# Altium footprint library блок вычислительный_v1.PcbLib: 29 footprints (part 2 of 2)
Each footprint in its own frame and in the unit in brackets; x right, y up, seen from the top. Pads: shape width x height; smd on the part's side, far side on the other; paste and mask are expansions set on the pad; w line width, h text height; cw(c..) or ccw(c..) is an arc to the next point about the centre after c.
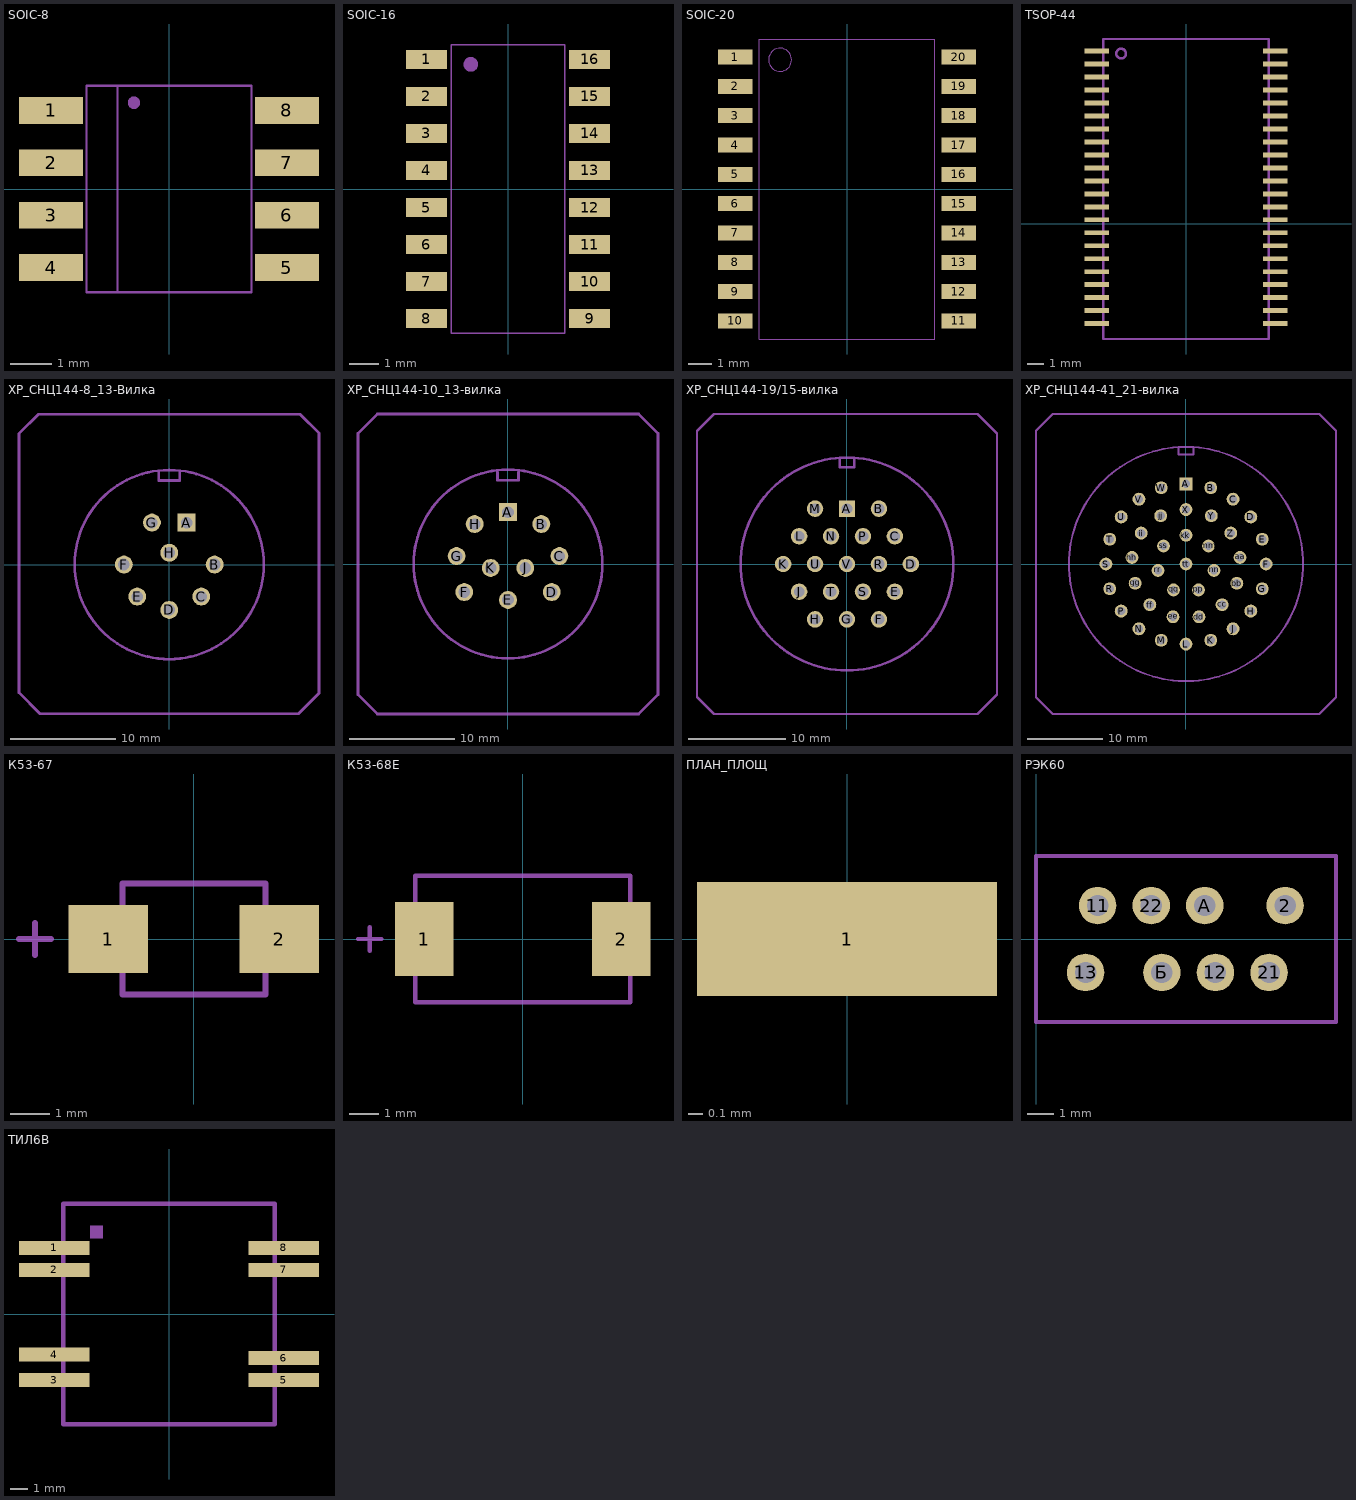
[diagram p1: the footprints below, top view; thin cyan lines are the x and y axes]

## SOIC-8 [mm]
height 1.752
pads (8):
  rect 1.55x0.65 smd: 1(-2.857,1.905) 2(-2.857,0.635) 3(-2.857,-0.635) 4(-2.857,-1.905) 5(2.857,-1.905) 6(2.857,-0.635) 7(2.857,0.635) 8(2.857,1.905)
Mechanical 13:
  circle w0.2: c-0.847,2.09 r0.05
  lines w0.05: -1.25,-2.501 -1.251,2.499 ; -2,-2.5 -2,2.5 2,2.5 2,-2.5 -2,-2.5
3D body "User Library-SOIC-8-1.STEP": height 1.75, standoff 0, extent -3,-2.45 3,2.45

## SOIC-16 [mm]
height 1.75
pads (16):
  rect 1.4x0.65 smd: 1(-2.8,4.445) 2(-2.8,3.175) 3(-2.8,1.905) 4(-2.8,0.635) 5(-2.8,-0.635) 6(-2.8,-1.905) 7(-2.8,-3.175) 8(-2.8,-4.445) 9(2.8,-4.445) 10(2.8,-3.175) 11(2.8,-1.905) 12(2.8,-0.635) 13(2.8,0.635) 14(2.8,1.905) 15(2.8,3.175) 16(2.8,4.445)
Mechanical 13:
  circle w0.3: c-1.275,4.275 r0.1
  lines w0.05: -1.95,-4.95 -1.95,4.95 1.95,4.95 1.95,-4.95 -1.95,-4.95
3D body "User Library-SOIC-16-1.step": height 1.4, standoff 0, extent -3,-4.95 3,4.95

## SOIC-20 [mm] "SOIC, 20-Leads, Body 12,80x7,50mm, Pitch 1,27mm, IPC Low Density"
height 2.65
pads (20):
  rect 1.5x0.65 smd: 1(-4.85,5.715) 2(-4.85,4.445) 3(-4.85,3.175) 4(-4.85,1.905) 5(-4.85,0.635) 6(-4.85,-0.635) 7(-4.85,-1.905) 8(-4.85,-3.175) 9(-4.85,-4.445) 10(-4.85,-5.715) 11(4.85,-5.715) 12(4.85,-4.445) 13(4.85,-3.175) 14(4.85,-1.905) 15(4.85,-0.635) 16(4.85,0.635) 17(4.85,1.905) 18(4.85,3.175) 19(4.85,4.445) 20(4.85,5.715)
Mechanical 13:
  circle w0.05: c-2.9,5.6 r0.5
  lines w0.05: -3.8,-6.5 3.8,-6.5 3.8,6.5 -3.8,6.5 -3.8,-6.5
3D body "SOIC_20-300.STEP": height 2.6, standoff 0, extent -5.2,-6.3 5.2,6.3

## TSOP-44 [mm]
height 1
pads (44):
  rect 1.5x0.3 smd: 1(-5.5,10.65) 2(-5.5,9.85) 3(-5.5,9.05) 4(-5.5,8.25) 5(-5.5,7.45) 6(-5.5,6.65) 7(-5.5,5.85) 8(-5.5,5.05) 9(-5.5,4.25) 10(-5.5,3.45) 11(-5.5,2.65) 12(-5.5,1.85) 13(-5.5,1.05) 14(-5.5,0.25) 15(-5.5,-0.55) 16(-5.5,-1.35) 17(-5.5,-2.15) 18(-5.5,-2.95) 19(-5.5,-3.75) 20(-5.5,-4.55) 21(-5.5,-5.35) 22(-5.5,-6.15) 23(5.5,-6.15) 24(5.5,-5.35) 25(5.5,-4.55) 26(5.5,-3.75) 27(5.5,-2.95) 28(5.5,-2.15) 29(5.5,-1.35) 30(5.5,-0.55) 31(5.5,0.25) 32(5.5,1.05) 33(5.5,1.85) 34(5.5,2.65) 35(5.5,3.45) 36(5.5,4.25) 37(5.5,5.05) 38(5.5,5.85) 39(5.5,6.65) 40(5.5,7.45) 41(5.5,8.25) 42(5.5,9.05) 43(5.5,9.85) 44(5.5,10.65)
Mechanical 13:
  circle w0.15: c-4,10.5 r0.3
  lines w0.15: -5.1,-7.1 -5.1,11.4 5.1,11.4 5.1,-7.1 -5.1,-7.1

## XP_СНЦ144-8_13-Вилка [mm]
pads (8):
  rect 1.7x1.7 hole 1.1: A(1.65,3.99)
  round 1.7 hole 1.1: B(4.32,0) C(3.05,-3.05) D(0,-4.32) E(-3.05,-3.05) F(-4.32,0) G(-1.65,3.99) H(0,1.12)
Mechanical 1:
  circle w0.254: c0,0 r9
  lines w0.254: -1,8.75 -1,8.5 -1,8 1,8 1,8.5 1,8.75 ; -14.3,-12.2 -14.3,12.45 -12.45,14.3 12.45,14.3 14.25,12.5 14.25,-12.25 12.3,-14.2 -12.3,-14.2 -14.3,-12.2
  text ".Designator" at -1.5,-1.5 h2
3D body "СНЦ144-8[13ВП21_ПС.STEP": height 35.9, standoff -3.46, extent -14.3,-14.3 14.3,14.3

## XP_СНЦ144-10_13-вилка [mm]
pads (10):
  rect 1.7x1.7 hole 1.1: A(0,4.95)
  round 1.7 hole 1.1: B(3.18,3.81) C(4.9,0.76) D(4.17,-2.67) E(0,-3.43) F(-4.17,-2.67) G(-4.9,0.76) H(-3.18,3.81) J(1.65,-0.38) K(-1.65,-0.38)
Mechanical 1:
  circle w0.254: c0,0 r9
  lines w0.254: -1,8.75 -1,8 1,8 1,8.75 ; -14.3,-12.45 -14.3,12.45 -12.45,14.3 12.45,14.3 14.3,12.45 14.3,-12.45 12.45,-14.3 -12.45,-14.3 -14.3,-12.45
  text ".Designator" at -1.5,1.25 h2
3D body "СНЦ144-10[13ВП21_ПС.STEP": height 35.9, standoff -3.46, extent -14.3,-14.3 14.3,14.3

## XP_СНЦ144-19/15-вилка [mm]
pads (19):
  rect 1.7x1.7 hole 1.1: A(0,5.72)
  round 1.7 hole 1.1: B(3.3,5.72) C(4.95,2.87) D(6.6,0) E(4.95,-2.87) F(3.3,-5.72) G(0,-5.72) H(-3.3,-5.72) J(-4.95,-2.87) K(-6.6,0) L(-4.95,2.87) M(-3.3,5.72) N(-1.65,2.87) P(1.65,2.87) R(3.3,0) S(1.65,-2.87) T(-1.65,-2.87) U(-3.3,0) V(0,0)
Mechanical 1:
  circle w0.254: c0,0 r11
  lines w0.254: -0.75,11 -0.75,10 0.75,10 0.75,11 ; -15.5,-13.75 -15.5,13.75 -13.75,15.5 13.5,15.5 15.5,13.5 15.5,-13.5 13.5,-15.5 -13.75,-15.5 -15.5,-13.75
  text ".Designator" at -1.25,1 h2
3D body "СНЦ144-19[15ВП21_ПС.STEP": height 34.9, standoff -4.46, extent -15.5,-15.5 15.5,15.5

## XP_СНЦ144-41_21-вилка [mm]
pads (41):
  rect 1.7x1.7 hole 1.1: A(0,10.6)
  round 1.7 hole 1.1: aa(7.15,0.87) B(3.28,10.09) bb(6.73,-2.55) C(6.23,8.58) cc(4.78,-5.39) D(8.58,6.23) dd(1.72,-6.99) E(10.09,3.28) ee(-1.72,-6.99) F(10.6,0) ff(-4.78,-5.39) G(10.09,-3.28) gg(-6.73,-2.55) H(8.58,-6.23) hh(-7.15,0.87) ii(-5.93,4.09) J(6.23,-8.58) jj(-3.35,6.38) K(3.28,-10.09) kk(0,3.81) L(0,-10.6) M(-3.28,-10.09) mm(2.98,2.38) N(-6.23,-8.58) nn(3.71,-0.85) P(-8.58,-6.23) pp(1.65,-3.43) qq(-1.65,-3.43) R(-10.09,-3.28) rr(-3.71,-0.85) S(-10.6,0) ss(-2.98,2.38) T(-10.09,3.28) tt(0,0) U(-8.58,6.23) V(-6.23,8.58) W(-3.28,10.09) X(0,7.2) Y(3.35,6.38) Z(5.93,4.09)
Mechanical 1:
  circle w0.254: c0,0 r15.5
  lines w0.254: -1,15.5 -1,14.5 1,14.5 1,15.5 ; -19.85,-17.65 -17.65,-19.85 17.65,-19.85 19.85,-17.65 19.85,17.65 17.65,19.85 -17.65,19.85 -19.85,17.65 -19.85,-17.65
  text ".Designator" at -2,1.25 h2
3D body "СНЦ144-41[21ВП21_ПС.STEP": height 34.8, standoff -4.46, extent -19.85,-19.875 19.85,19.825

## К53-67 [mm]
height 2.45
pads (2):
  rect 2x1.7 smd: 1(-2.15,0) 2(2.15,0)
Mechanical 13:
  lines w0.15: -4.4,0 -3.6,0 ; -4,-0.4 -4,0.4 ; -1.8,-1.4 1.8,-1.4 1.8,1.4 -1.8,1.4 -1.8,-1.4

## К53-68E [mm]
height 2.45
pads (2):
  rect 2x2.5 smd: 1(-3.35,0) 2(3.35,0)
Mechanical 13:
  lines w0.15: -5.6,0 -4.8,0 ; -5.2,-0.4 -5.2,0.4 ; -3.65,-2.15 -3.65,2.15 3.65,2.15 3.65,-2.15 -3.65,-2.15

## ПЛАН_ПЛОЩ [mm]
pads (1):
  rect 2.1x0.8 smd: 1(0,0)

## РЭК60 [mm]
height 8.75
pads (8):
  round 1.4 hole 0.8: 2(9.3,1.25) 11(2.3,1.25) 12(6.7,-1.25) 13(1.85,-1.25) 21(8.7,-1.25) 22(4.3,1.25) А(6.3,1.25) Б(4.7,-1.25)
Mechanical 13:
  lines w0.15: 0,-3.1 0,3.1 11.2,3.1 11.2,-3.1 0,-3.1

## ТИЛ6В [mm]
height 0.084
pads (8):
  rect 4x0.8 smd: 1(-6.5,3.75) 2(-6.5,2.5) 3(-6.5,-3.75) 4(-6.5,-2.3) 5(6.5,-3.75) 6(6.5,-2.5) 7(6.5,2.5) 8(6.5,3.75)
Mechanical 1:
  region: -4.45,5 -4.45,4.3 -3.75,4.3 -3.75,5
  lines w0.254: -6,-6.25 -6,6.25 6,6.25 6,-6.25 -6,-6.25